# EAGLE library part WISMC01BI (library lib_stankus)
WISMC01BI WLAN module
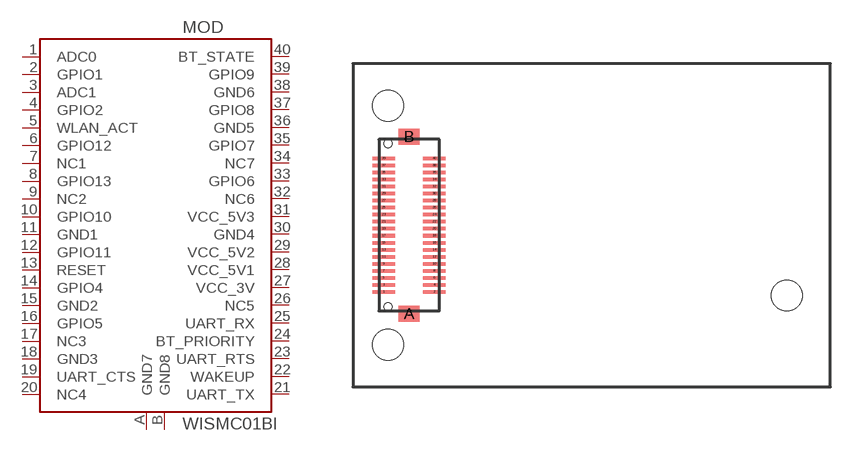
[diagram p32: symbol with the pads of WISMC01BI; footprint WISMC01BI]

Designator prefix MOD

## WISMC01BI  [WISMC01BI]
1  ADC0  pas
2  GPIO1  pas
3  ADC1  pas
4  GPIO2  pas
5  WLAN_ACT  pas
6  GPIO12  pas
7  NC1  nc
8  GPIO13  pas
9  NC2  nc
10  GPIO10  pas
11  GND1  pas
12  GPIO11  pas
13  RESET  pas
14  GPIO4  pas
15  GND2  pas
16  GPIO5  pas
17  NC3  nc
18  GND3  pas
19  UART_CTS  pas
20  NC4  nc
21  UART_TX  pas
22  WAKEUP  pas
23  UART_RTS  pas
24  BT_PRIORITY  pas
25  UART_RX  pas
26  NC5  nc
27  VCC_3V  pas
28  VCC_5V1  pas
29  VCC_5V2  pas
30  GND4  pas
31  VCC_5V3  pas
32  NC6  nc
33  GPIO6  pas
34  NC7  nc
35  GPIO7  pas
36  GND5  pas
37  GPIO8  pas
38  GND6  pas
39  GPIO9  pas
40  BT_STATE  pas
A  GND7  pas
B  GND8  pas

## Footprint WISMC01BI (pad centres in mm)
WISMC01BI
smd 1.6 x 0.25: 1 -1.8,-4.75; 2 1.8,-4.75; 3 -1.8,-4.25; 4 1.8,-4.25; 5 -1.8,-3.75; 6 1.8,-3.75; 7 -1.8,-3.25; 8 1.8,-3.25; 9 -1.8,-2.75; 10 1.8,-2.75; 11 -1.8,-2.25; 12 1.8,-2.25; 13 -1.8,-1.75; 14 1.8,-1.75; 15 -1.8,-1.25; 16 1.8,-1.25; 17 -1.8,-0.75; 18 1.8,-0.75; 19 -1.8,-0.25; 20 1.8,-0.25; 21 -1.8,0.25; 22 1.8,0.25; 23 -1.8,0.75; 24 1.8,0.75; 25 -1.8,1.25; 26 1.8,1.25; 27 -1.8,1.75; 28 1.8,1.75; 29 -1.8,2.25; 30 1.8,2.25; 31 -1.8,2.75; 32 1.8,2.75; 33 -1.8,3.25; 34 1.8,3.25; 35 -1.8,3.75; 36 1.8,3.75; 37 -1.8,4.25; 38 1.8,4.25; 39 -1.8,4.75; 40 1.8,4.75
smd 1.5 x 1.15: A 0,-6.3; B 0,6.3
hole 0.6 at -1.5,5.8
hole 0.6 at -1.5,-5.8
hole 2.2 at -1.5,8.5
hole 2.2 at -1.5,-8.5
hole 2.2 at 26.9,-5